# Altium schematic symbol library MCP602-ISN.SchLib: 1 symbol
Pins are listed as number, name and electrical type; pins without a type are passive.

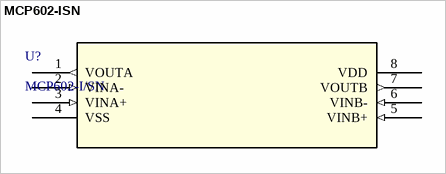
[diagram p0: symbol MCP602-ISN]

## MCP602-ISN
designator U?, comment MCP602-I/SN
Description; Manufacturer_Name: Microchip; Copyright: Copyright (C) 2025 Ultra Librarian. All rights reserved.; Manufacturer_Part_Number: MCP602-I/SN; RefDes: RefDes; Type: Type
footprint SOIC8-N_MC_MCH
pins: 1 VOUTA (out), 2 VINA- (in), 3 VINA+ (in), 4 VSS, 5 VINB+ (in), 6 VINB- (in), 7 VOUTB (out), 8 VDD